# EAGLE library part HEADER-DF40C-10DP-30P-0.4V-1.5MM (library connectors)
DF40 Series●0.4mm Pitch, 1.5 to 4.0mm Height, Board-to-Board and Board-to-FPC Connector 1.5mm Header (For use with shielded product) Digi-Key Part Number H11622CT-ND Quantity Available 3,874 Can ship immediately Manufacturer Hirose Electric Co Ltd </en/supplier-centers/h/hirose> Manufacturer Part Number DF40C-30DP-0.4V(51) Description 30 Position Connector Plug, Outer Shroud Contacts Surface Mount Gold Lead Free Status / RoHS Status Lead free / RoHS Compliant Moisture Sensitivity Level (MSL) 1 (Unlimited) Manufacturer Standard Lead Time 8 Weeks
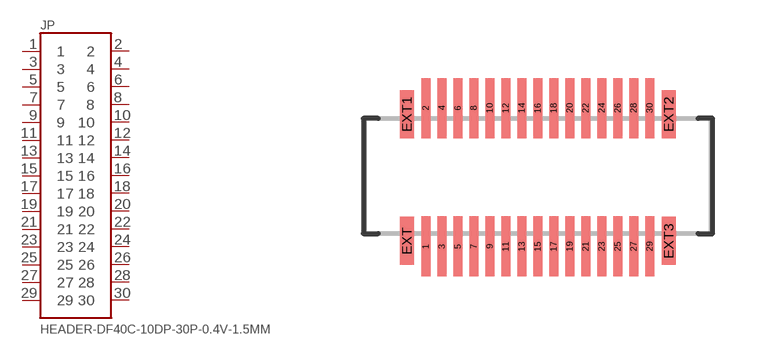
[diagram p3: symbol with the pads of HEADER-DF40-30; footprint HEADER-DF40-30]

Designator prefix JP

## HEADER-DF40C-10DP-30P-0.4V-1.5MM (DIGIKEY: H11622CT-ND)  [HEADER-DF40-30]
1  1
2  2
3  3
4  4
5  5
6  6
7  7
8  8
9  9
10  10
11  11
12  12
13  13
14  14
15  15
16  16
17  17
18  18
19  19
20  20
21  21
22  22
23  23
24  24
25  25
26  26
27  27
28  28
29  29
30  30

## Footprint HEADER-DF40-30 (pad centres in mm)
smd 0.23 x 1.5: 1 -2.8,-1.76; 2 -2.8,1.7; 3 -2.4,-1.76; 4 -2.4,1.7; 5 -2,-1.76; 6 -2,1.7; 7 -1.6,-1.76; 8 -1.6,1.7; 9 -1.2,-1.76; 10 -1.2,1.7; 11 -0.8,-1.76; 12 -0.8,1.7; 13 -0.4,-1.76; 14 -0.4,1.7; 15 0,-1.76; 16 0,1.7; 17 0.4,-1.76; 18 0.4,1.7; 19 0.8,-1.76; 20 0.8,1.7; 21 1.2,-1.76; 22 1.2,1.7; 23 1.6,-1.76; 24 1.6,1.7; 25 2,-1.76; 26 2,1.7; 27 2.4,-1.76; 28 2.4,1.7; 29 2.8,-1.76; 30 2.8,1.7
smd 0.35 x 1.2: EXT -3.275,-1.62; EXT1 -3.275,1.55; EXT2 3.275,1.55; EXT3 3.275,-1.62